# Altium schematic symbol library CAN_Optical_SchLib.SchLib: 21 symbols
Pins are listed as number, name and electrical type; pins without a type are passive.

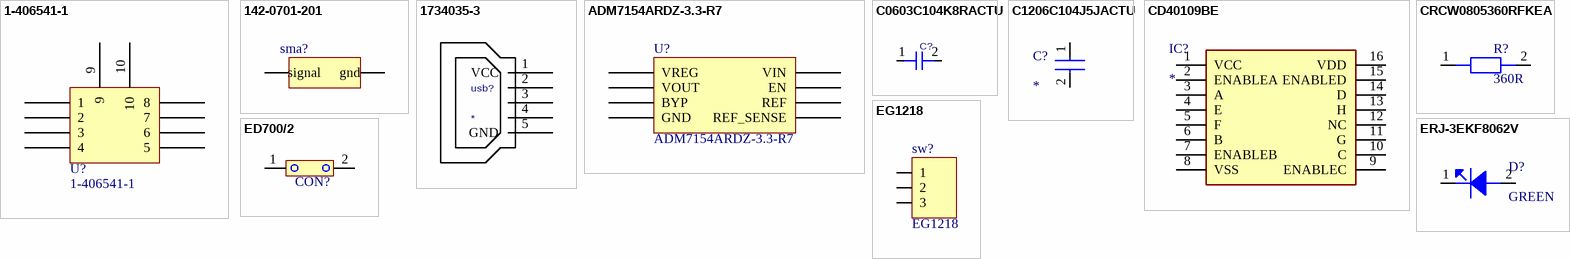
[diagram p0: symbols 1-406541-1 to ERJ-3EKF8062V]

## 1-406541-1
designator U?
Digi-Key Part Number: A97716-ND
footprint 1-406541-1 (Jack Modular Connector 8p8c (RJ45, Ethernet) 90° Angle (Right) Shielded, EMI Finger Cat5)
pins: 1, 2, 3, 4, 5, 6, 7, 8, 9, 10

## 142-0701-201
designator sma?  (value not drawn)
Digi-Key Part Number: J500-ND
footprint 142-0701-201 (CONN SMA JACK STR 50 OHM PCB)
pins: 1 signal, 2 gnd

## 1734035-3
designator usb?
CONN MINI B USB R/A SMD; Manufacturer: TE Connectivity; Manufacturer Part Number: 1734035-3; Plating: Nickel; Connector Type: Receptacle; Number of Ports: 1; Number of Positions: 5; Plating Thickness: 0.76um; Circuit Application: Power; Connector System: Cable-to-Board; Contact Current Rating: 1A; Pitch: 0.8mm; PCB Thickness: 1.57mm; Supplier 1: Digi-Key; Stock 1: 11601; Pricing 1: 1=1.37, 10=1.239, 25=1.1636, 50=1.113, 100=1.0624, 250=0.96124 (USD); Mount: Surface Mount,Horizontal; Contact Plating: Gold; Housing Color: Black; Contact Material: Bronze; Number of Terminals: 5; Housing Material: Thermoplastic; Color: Black; Min Operating Temperature: -40°C; Max Operating Temperature: 85°C; Termination: SMD/SMT; Orientation: Right Angle; Packaging: Tape and Reel; Package Quantity: 700; Gender: Receptacle; Number of Contacts: 5; Length: 8.45mm; Width: 7.7mm; Radiation Hardening: No; ELV: Compliant; Flammability Rating: UL94 V-0; Lead Free: Lead Free; ComponentLink1URL: http://www.te.com/commerce/DocumentDelivery/DDEController?Action=showdoc&DocId=Customer+Drawing%7F1734035%7FA%7Fpdf%7FEnglish%7FENG_CD_1734035_A.pdf&src-supplier=Avnet; ComponentLink1Description: http://www.te.com/commerce/DocumentDelivery/DDEController?Action=showdoc&DocId=Customer+Drawing%7F1734035%7FA%7Fpdf%7FEnglish%7FENG_CD_1734035_A.pdf&src-supplier=Avnet; ComponentLink2URL: http://www.te.com/commerce/DocumentDelivery/DDEController?Action=showdoc&DocId=Customer+Drawing%7F1734035%7FA%7Fpdf%7FEnglish%7FENG_CD_1734035_A.pdf&src-supplier=Avnet+Europe; ComponentLink2Description: http://www.te.com/commerce/DocumentDelivery/DDEController?Action=showdoc&DocId=Customer+Drawing%7F1734035%7FA%7Fpdf%7FEnglish%7FENG_CD_1734035_A.pdf&src-supplier=Avnet+Europe; ComponentLink3URL: http://www.mouser.com/ds/2/418/NG_CD_1734035_F-617298.pdf?src-supplier=Mouser; ComponentLink3Description: http://www.mouser.com/ds/2/418/NG_CD_1734035_F-617298.pdf?src-supplier=Mouser; ComponentLink4URL: http://www.te.com/commerce/DocumentDelivery/DDEController?Action=srchrtrv&DocNm=1734035&DocType=Customer+Drawing&DocLang=English&src-supplier=Digi-Key; ComponentLink4Description: http://www.te.com/commerce/DocumentDelivery/DDEController?Action=srchrtrv&DocNm=1734035&DocType=Customer+Drawing&DocLang=English&src-supplier=Digi-Key; Category: USB Connectors
footprint USB-1734035
pins: 1 VCC, 2, 3, 4, 5 GND

## ADM7154ARDZ-3.3-R7
designator U?
Linear Voltage Regulator IC Positive Fixed 1 Output 3.3V 600mA 8-SOIC-EP; Digi-Key Part Number: ADM7154ARDZ-3.3-R7CT-ND
footprint ADM7154ARDZ-3.3-R7 (Linear Voltage Regulator IC Positive Fixed 1 Output 3.3V 600mA 8-SOIC-EP)
pins: 1 VREG, 2 VOUT, 3 BYP, 4 GND, 5 REF_SENSE, 6 REF, 7 EN, 8 VIN

## C0603C104K8RACTU
designator C?  (value not drawn)
KEMET - C0603C104K8RACTU - SMD Multilayer Ceramic Capacitor, 0.1 µF, 10 V, 0603 [1608 Metric], ± 10%, X7R, C Series KEMET; Capacitance: 100nF; Voltage Rating (DC): 10V; Dissipation Factor: 5%; Supplier 1: Digi-Key; Manufacturer: KEMET; Manufacturer Part Number: C0603C104K8RACTU; Stock 1: 311118; Pricing 1: 1=0.14, 10=0.098, 100=0.0462, 500=0.0324, 1000=0.02683 (USD); Mount: Surface Mount,PCB; Case/Package: 0603; Number of Pins: 2; Dielectric Material: Ceramic; Case Code (Imperial): 0603; Case Code (Metric): 1608; Contact Plating: Tin,Matte; Min Operating Temperature: -55°C; Max Operating Temperature: 125°C; Tolerance: 10%; Dielectric: X7R; Packaging: Tape and Reel; Package Quantity: 1; Termination: SMD/SMT; Voltage Rating: 10V; Voltage: 10V; Length: 1.6mm; Height: 0.8mm; Depth: 0.8mm; Width: 0.8mm; Lead Pitch: 0.7mm; Thickness: 0.034inch; Radiation Hardening: No; REACH SVHC: No SVHC; ComponentLink1URL: http://www.farnell.com/datasheets/2740421.pdf?src-supplier=Farnell; ComponentLink1Description: http://www.farnell.com/datasheets/2740421.pdf?src-supplier=Farnell; ComponentLink2URL: http://www.kemet.com/kemet/web/homepage/kechome.nsf/vapubfiles/KEM_C1002_X7R_SMD.pdf/$file/KEM_C1002_X7R_SMD.pdf?src-supplier=Element14; ComponentLink2Description: http://www.kemet.com/kemet/web/homepage/kechome.nsf/vapubfiles/KEM_C1002_X7R_SMD.pdf/$file/KEM_C1002_X7R_SMD.pdf?src-supplier=Element14; ComponentLink3URL: https://www.verical.com/server-webapp/html/getDatasheet?partID=91529&src-supplier=Verical; ComponentLink3Description: https://www.verical.com/server-webapp/html/getDatasheet?partID=91529&src-supplier=Verical; ComponentLink4URL: http://www.mouser.com/ds/2/212/KEM_C1002_X7R_SMD-1102033.pdf?src-supplier=Mouser; ComponentLink4Description: http://www.mouser.com/ds/2/212/KEM_C1002_X7R_SMD-1102033.pdf?src-supplier=Mouser; ComponentLink5URL: http://www.alliedelec.com/m/d/9bfe7773041ffe9d406e68bc7b377fdd.pdf?src-supplier=Allied+Electronics; ComponentLink5Description: http://www.alliedelec.com/m/d/9bfe7773041ffe9d406e68bc7b377fdd.pdf?src-supplier=Allied+Electronics; ComponentLink6URL: http://www.farnell.com/datasheets/2740421.pdf?src-supplier=Element14; ComponentLink6Description: http://www.farnell.com/datasheets/2740421.pdf?src-supplier=Element14; Category: Multilayer Ceramic Capacitors MLCC
footprint C0603
pins: 1, 2

## C1206C104J5JACTU
designator C?
Capacitor; Manufacturer_Name: Kemet; Manufacturer_Part_Number: C1206C104J5JACTU; Datasheet Link: https://api.kemet.com/component-edge/download/datasheet/C1206C104J5JACTU.pdf; Height: 1.35mm
footprint CAPC3216X135N
pins: 1, 2

## CD40109BE
designator IC?
Integrated Circuit; Manufacturer_Name: Texas Instruments; Manufacturer_Part_Number: CD40109BE; Datasheet Link: http://www.ti.com/lit/ds/symlink/cd40109b.pdf; Height: 5.08mm; Mouser2 Part Number: 595-CD40109BE; Mouser2 Price/Stock: https://www.mouser.com/Search/Refine.aspx?Keyword=595-CD40109BE
footprint DIP794W53P254L1930H508Q16N
pins: 1 VCC (power), 2 ENABLEA, 3 A, 4 E, 5 F, 6 B, 7 ENABLEB, 8 VSS (power), 9 ENABLEC, 10 C, 11 G, 12 NC, 13 H, 14 D, 15 ENABLED, 16 VDD (power)

## CRCW0805360RFKEA
designator R?, comment 360R
Res Thick Film 0805 360 Ohm 1% 0.125W(1/8W) ±100ppm/C Molded SMD Automotive Paper T/R; Manufacturer 1: Vishay; Manufacturer Part Number 1: CRCW0805360RFKEA; Temperature Coefficient: 100ppm/°C; Max Power Dissipation: 125mW; Voltage Rating (DC): 150V; Supplier 1: Digi-Key; Supplier Part Number 1: 541-360CCT-ND; Stock 1: 2468; Pricing 1: 1=0.10000, 10=0.06200, 100=0.02540, 1000=0.01142, 2500=0.00991 (USD); RoHS: Yes; Case/Package: 0805; Number of Pins: 2; Weight: 0.000194oz; Contact Plating: Tin; Case Code (Metric): 2012; Case Code (Imperial): 0805; Number of Terminals: 2; Min Operating Temperature: -55°C; Max Operating Temperature: 155°C; Number of Terminations: 2; Features: Automotive AEC-Q200; Resistance: 360R; Tolerance: 1%; Packaging: Tape and Reel; Composition: Thick Film; Package Quantity: 10; Termination: SMD/SMT; Military Standard: Not; Power Rating: 125mW; Voltage Rating: 150V; Length: 2mm; Height: 0.45mm; Width: 0.049inch; Depth: 1.25mm; Radiation Hardening: No; Lead Free: Lead Free; REACH SVHC: Unknown; ComponentLink1URL: https://datasheet.ciiva.com/2467/dcrcwe3-2467773.pdf?src-supplier=Digi-Key; ComponentLink1Description: https://datasheet.ciiva.com/2467/dcrcwe3-2467773.pdf?src-supplier=Digi-Key; Category: Resistors
footprint R0805 - duplicate - duplicate
pins: 1, 2

## ED700/2
designator CON?  (value not drawn)
Digi-Key Part Number: ED1631-ND
footprint ED700/2 (TERMINAL BLOCK 5MM 2POS PCB)
pins: 1, 2

## EG1218
designator sw?
Digi-Key Part Number: EG1903-ND
footprint EG1218 (SWITCH SLIDE SPDT 200MA 30V)
pins: 1, 2, 3

## ERJ-3EKF8062V
designator D?, comment GREEN
PANASONIC - ERJ3EKF8062V - Surface Mount Thick Film Resistor, AEC-Q200 ERJ Series, 80.6 kohm, 100 mW, -  1%, 75 V RoHS Compliant: Yes; Manufacturer Part Number 1: ERJ-3EKF8062V; Voltage Rating: 75V; Temperature Coefficient: 100ppm/°C; Max Power Dissipation: 100mW; Resistance: 80.6kR; Supplier 1: Digi-Key; Supplier Part Number 1: P80.6KHCT-ND; Manufacturer 1: Panasonic; Stock 1: 56636; Pricing 1: 1=0.10000, 10=0.05700, 100=0.02340, 1000=0.01049, 2500=0.00911 (USD); RoHS: Yes; Mount: Surface Mount; Case/Package: 0603; Contact Plating: Tin; Case Code (Imperial): 0603; Case Code (Metric): 1608; Min Operating Temperature: -55°C; Max Operating Temperature: 155°C; Packaging: Tape and Reel; Package Quantity: 1; Termination: SMD/SMT; Tolerance: 1%; Composition: Thick Film; Number of Terminations: 2; Power Rating: 100mW; Features: Automotive AEC-Q200; Military Standard: Not; Length: 1.6mm; Height: 0.45mm; Depth: 0.8mm; Width: 0.8mm; Radiation Hardening: No; REACH SVHC: No SVHC; ComponentLink1URL: https://datasheet.ciiva.com/34303/1988428-34303606.pdf?src-supplier=Jameco; ComponentLink1Description: https://datasheet.ciiva.com/34303/1988428-34303606.pdf?src-supplier=Jameco; ComponentLink2URL: https://datasheet.ciiva.com/26820/getdatasheetpartid-28772-26820919.pdf?src-supplier=Verical; ComponentLink2Description: https://datasheet.ciiva.com/26820/getdatasheetpartid-28772-26820919.pdf?src-supplier=Verical; ComponentLink3URL: https://datasheet.ciiva.com/28540/1678782-28540761.pdf?src-supplier=Element14; ComponentLink3Description: https://datasheet.ciiva.com/28540/1678782-28540761.pdf?src-supplier=Element14; ComponentLink4URL: https://datasheet.ciiva.com/30240/aoa0000ce2-30240122.pdf?src-supplier=Onlinecomponents.com; ComponentLink4Description: https://datasheet.ciiva.com/30240/aoa0000ce2-30240122.pdf?src-supplier=Onlinecomponents.com; ComponentLink5URL: https://datasheet.ciiva.com/9117/aoa0000ce2-9117181.pdf?src-supplier=Avnet; ComponentLink5Description: https://datasheet.ciiva.com/9117/aoa0000ce2-9117181.pdf?src-supplier=Avnet; ComponentLink6URL: https://datasheet.ciiva.com/16767/70260748-16767567.pdf?src-supplier=Allied+Electronics; ComponentLink6Description: https://datasheet.ciiva.com/16767/70260748-16767567.pdf?src-supplier=Allied+Electronics; ComponentLink7URL: https://datasheet.ciiva.com/16771/70260748-16771423.pdf?src-supplier=Allied+Electronics; ComponentLink7Description: https://datasheet.ciiva.com/16771/70260748-16771423.pdf?src-supplier=Allied+Electronics; ComponentLink8URL: https://datasheet.ciiva.com/24069/aoa0000ce2-24069717.pdf?src-supplier=Mouser; ComponentLink8Description: https://datasheet.ciiva.com/24069/aoa0000ce2-24069717.pdf?src-supplier=Mouser; ComponentLink9URL: https://datasheet.ciiva.com/43460/426256-43460613.pdf?src-supplier=Farnell; ComponentLink9Description: https://datasheet.ciiva.com/43460/426256-43460613.pdf?src-supplier=Farnell; ComponentLink10URL: https://datasheet.ciiva.com/46390/426256-46390277.pdf?src-supplier=Element14; ComponentLink10Description: https://datasheet.ciiva.com/46390/426256-46390277.pdf?src-supplier=Element14; ComponentLink11URL: https://datasheet.ciiva.com/46378/426256-46378107.pdf?src-supplier=Element14; ComponentLink11Description: https://datasheet.ciiva.com/46378/426256-46378107.pdf?src-supplier=Element14; ComponentLink12URL: https://datasheet.ciiva.com/17208/aoa0000ce2-17208604.pdf?src-supplier=Avnet+Europe; ComponentLink12Description: https://datasheet.ciiva.com/17208/aoa0000ce2-17208604.pdf?src-supplier=Avnet+Europe; ComponentLink13URL: https://datasheet.ciiva.com/6159/426256-6159621.pdf?src-supplier=Farnell; ComponentLink13Description: https://datasheet.ciiva.com/6159/426256-6159621.pdf?src-supplier=Farnell; Category: Optoelectronics
footprint LED0603G
pins: 1, 2

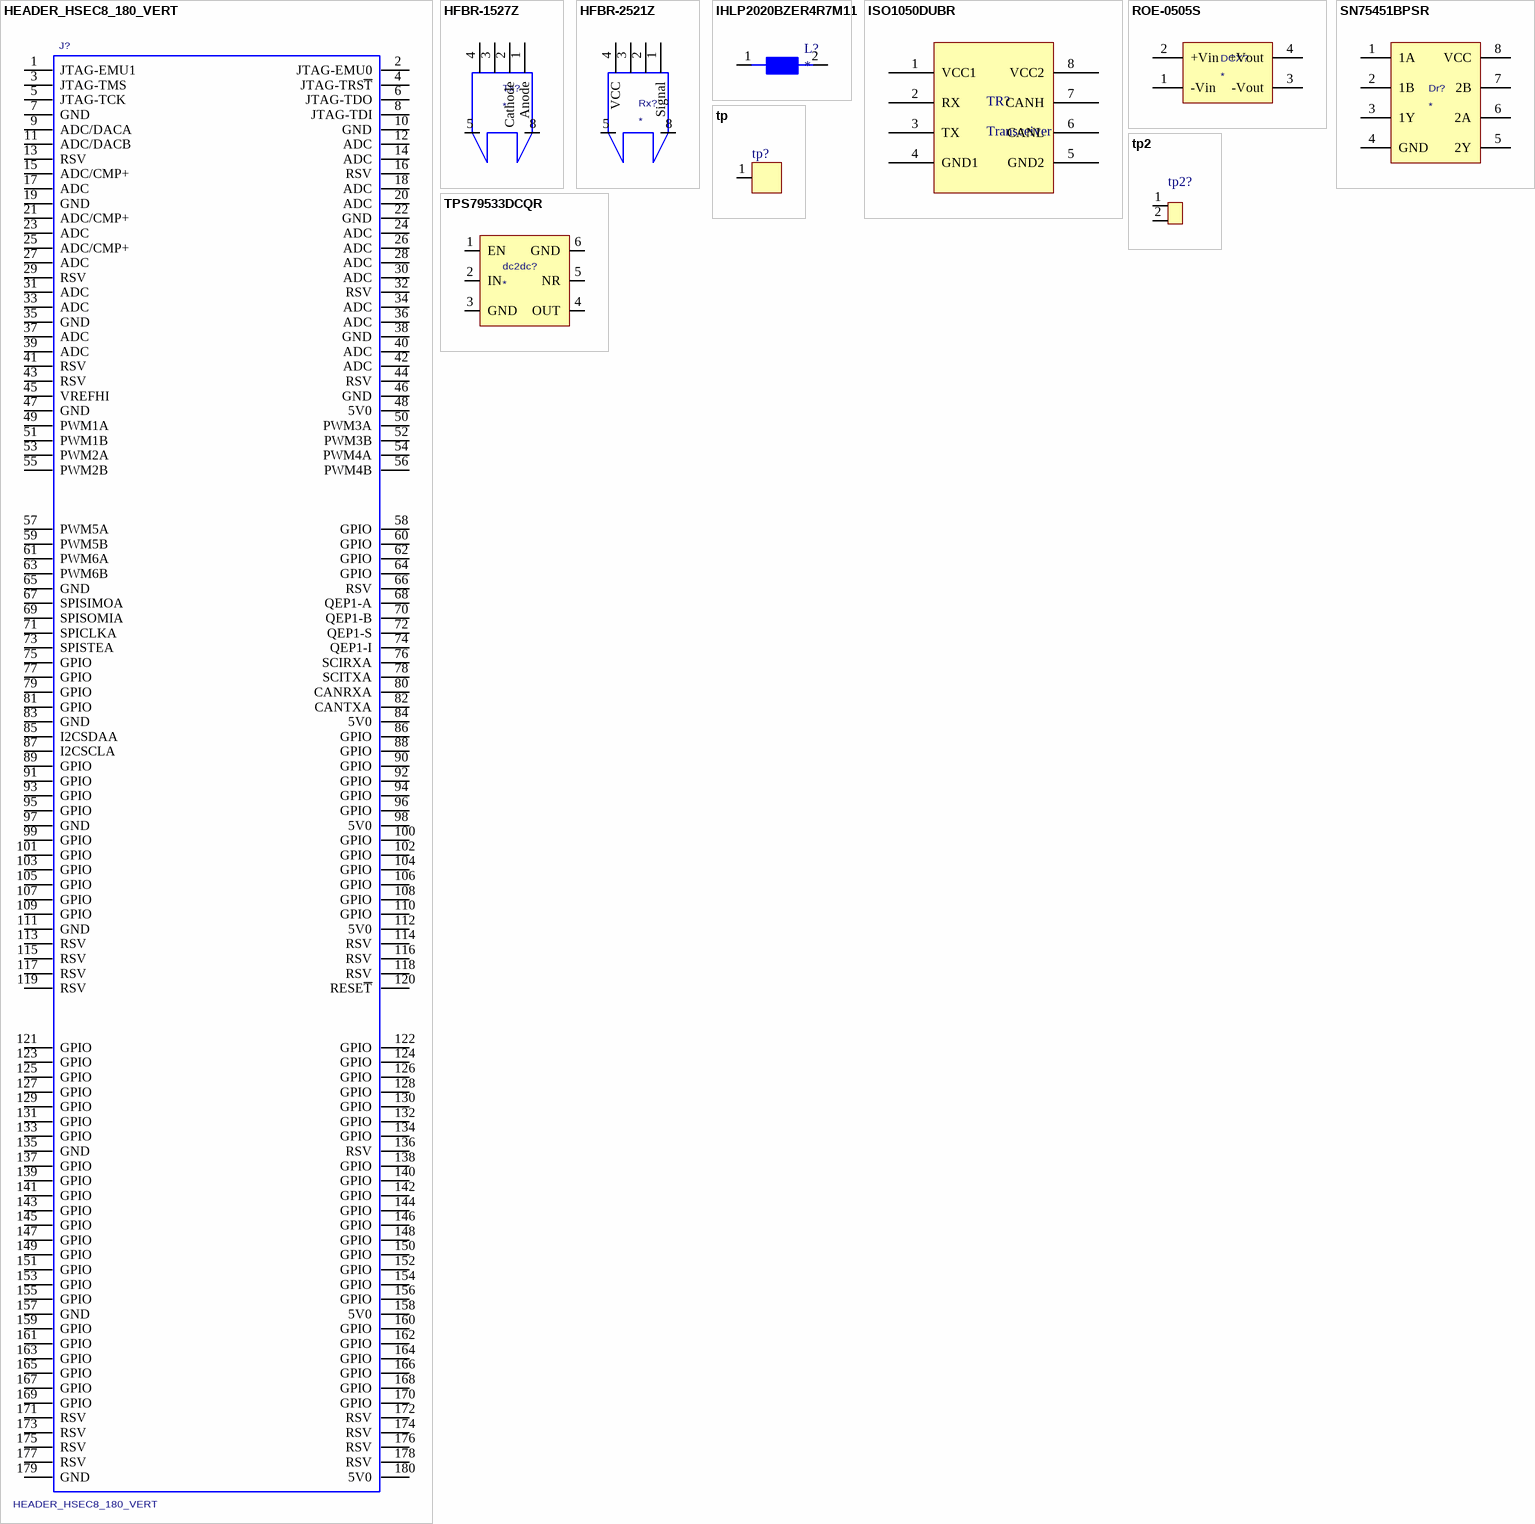
[diagram p1: symbols HEADER_HSEC8_180_VERT to TPS79533DCQR]

## HEADER_HSEC8_180_VERT
designator J?
180 pin (120 + 60) HSEC8 socket, samtec; Digi-Key Part Number: SAM9083-ND & SAM9080-ND
footprint HEADER_HSEC8_180_DV
pins: 1 JTAG-EMU1, 2 JTAG-EMU0, 3 JTAG-TMS, 4 JTAG-TRS~{T}, 5 JTAG-TCK, 6 JTAG-TDO, 7 GND, 8 JTAG-TDI, 9 ADC/DACA, 10 GND, 11 ADC/DACB, 12 ADC, 13 RSV, 14 ADC, 15 ADC/CMP+, 16 RSV, 17 ADC, 18 ADC, 19 GND, 20 ADC, 21 ADC/CMP+, 22 GND, 23 ADC, 24 ADC, 25 ADC/CMP+, 26 ADC, 27 ADC, 28 ADC, 29 RSV, 30 ADC, 31 ADC, 32 RSV, 33 ADC, 34 ADC, 35 GND, 36 ADC, 37 ADC, 38 GND, 39 ADC, 40 ADC, 41 RSV, 42 ADC, 43 RSV, 44 RSV, 45 VREFHI, 46 GND, 47 GND, 48 5V0, 49 PWM1A, 50 PWM3A, 51 PWM1B, 52 PWM3B, 53 PWM2A, 54 PWM4A, 55 PWM2B, 56 PWM4B, 57 PWM5A, 58 GPIO, 59 PWM5B, 60 GPIO, 61 PWM6A, 62 GPIO, 63 PWM6B, 64 GPIO, 65 GND, 66 RSV, 67 SPISIMOA, 68 QEP1-A, 69 SPISOMIA, 70 QEP1-B, 71 SPICLKA, 72 QEP1-S, 73 SPISTEA, 74 QEP1-I, 75 GPIO, 76 SCIRXA, 77 GPIO, 78 SCITXA, 79 GPIO, 80 CANRXA, 81 GPIO, 82 CANTXA, 83 GND, 84 5V0, 85 I2CSDAA, 86 GPIO, 87 I2CSCLA, 88 GPIO, 89 GPIO, 90 GPIO, 91 GPIO, 92 GPIO, 93 GPIO, 94 GPIO, 95 GPIO, 96 GPIO, 97 GND, 98 5V0, 99 GPIO, 100 GPIO, 101 GPIO, 102 GPIO, 103 GPIO, 104 GPIO, 105 GPIO, 106 GPIO, 107 GPIO, 108 GPIO, 109 GPIO, 110 GPIO, 111 GND, 112 5V0, 113 RSV, 114 RSV, 115 RSV, 116 RSV, 117 RSV, 118 RSV, 119 RSV, 120 RESE~{T}, 121 GPIO, 122 GPIO, 123 GPIO, 124 GPIO, 125 GPIO, 126 GPIO, 127 GPIO, 128 GPIO, 129 GPIO, 130 GPIO, 131 GPIO, 132 GPIO, 133 GPIO, 134 GPIO, 135 GND, 136 RSV, 137 GPIO, 138 GPIO, 139 GPIO, 140 GPIO, 141 GPIO, 142 GPIO, 143 GPIO, 144 GPIO, 145 GPIO, 146 GPIO, 147 GPIO, 148 GPIO, 149 GPIO, 150 GPIO, 151 GPIO, 152 GPIO, 153 GPIO, 154 GPIO, 155 GPIO, 156 GPIO, 157 GND, 158 5V0, 159 GPIO, 160 GPIO, 161 GPIO, 162 GPIO, 163 GPIO, 164 GPIO, 165 GPIO, 166 GPIO, 167 GPIO, 168 GPIO, 169 GPIO, 170 GPIO, 171 RSV, 172 RSV, 173 RSV, 174 RSV, 175 RSV, 176 RSV, 177 RSV, 178 RSV, 179 GND, 180 5V0

## HFBR-1527Z
designator Tx?
IC & Component Sockets 8 PIN SKT 200u Sn; Manufacturer: Broadcom Avago; Manufacturer Part Number: 110-41-308-41-001000; Operating Supply Voltage: 5V; Forward Voltage: 2.1V; Wavelength: 650nm; Data Rate: 1Mbps; Capacitance: 60pF; Forward Current: 80mA; Max Reverse Voltage (DC): 3V; Rise Time: 12ns; Fall Time: 9ns; Supplier 1: Digi-Key; Stock 1: 1407; Pricing 1: 1=12.01, 10=11.499, 100=7.6659, 500=6.89932, 1000=6.51602, 2500=6.38825, 5000=6.26049, 10000=6.23493 (USD); Mount: Snap in,Through Hole; Number of Pins: 6; Min Operating Temperature: 0°C; Max Operating Temperature: 70°C; Package Quantity: 200; Reverse Voltage (DC): 5V; Packaging: Rail/Tube; Length: 19.6mm; Height: 7.71mm; Width: 10.4mm; Radiation Hardening: No; REACH SVHC: No SVHC; Lead Free: Lead Free; ComponentLink1URL: http://www.farnell.com/datasheets/67624.pdf?src-supplier=Element14; ComponentLink1Description: http://www.farnell.com/datasheets/67624.pdf?src-supplier=Element14; ComponentLink2URL: http://www1.futureelectronics.com/doc/AVAGO%20TECHNOLOGIES/HFBR-1527Z.pdf?src-supplier=Future+Electronics; ComponentLink2Description: http://www1.futureelectronics.com/doc/AVAGO%20TECHNOLOGIES/HFBR-1527Z.pdf?src-supplier=Future+Electronics; ComponentLink3URL: https://www.distrelec.biz/Web/Downloads/_t/ds/HFBR-0500Z_eng_tds.pdf?mime=application%2Fpdf&src-supplier=Distrelec; ComponentLink3Description: https://www.distrelec.biz/Web/Downloads/_t/ds/HFBR-0500Z_eng_tds.pdf?mime=application%2Fpdf&src-supplier=Distrelec; ComponentLink4URL: https://www.verical.com/server-webapp/html/getDatasheet?partID=95209&src-supplier=Verical; ComponentLink4Description: https://www.verical.com/server-webapp/html/getDatasheet?partID=95209&src-supplier=Verical; ComponentLink5URL: http://uk.rs-online.com/webdocs/0a20/0900766b80a20828.pdf?src-supplier=RSComponents; ComponentLink5Description: http://uk.rs-online.com/webdocs/0a20/0900766b80a20828.pdf?src-supplier=RSComponents; ComponentLink6URL: http://datasheet.iiic.cc/avago_technologies/HFBR-1527Z.pdf?src-supplier=IIIC; ComponentLink6Description: http://datasheet.iiic.cc/avago_technologies/HFBR-1527Z.pdf?src-supplier=IIIC; Category: Fiber Optic Transmitters
footprint HFBRX5XXZ
pins: 1 Anode, 2 Cathode, 3, 4, 5, 8 6

## HFBR-2521Z
designator Rx?
IC & Component Sockets 8 PIN SKT 200u Sn; Manufacturer: Broadcom; Manufacturer Part Number: 110-41-308-41-001000; Wavelength: 660nm; Operating Supply Current: 10mA; Supplier 1: Digi-Key; Stock 1: 3382; Pricing 1: 1=11.78, 10=10.666, 100=7.1104, 500=6.1105, 1000=5.7772, 2500=5.64388, 5000=5.555, 10000=5.4439 (USD); REACH SVHC: No SVHC
footprint HFBRX5XXZ
pins: 1 Signal, 2, 3, 4 VCC, 5, 8 6

## IHLP2020BZER4R7M11
designator L?
FIXED IND 4.7UH 3.2A 81.3 MOHM; Manufacturer: Vishay Dale; Manufacturer Part Number: IHLP2020BZER4R7M11; Core Material: Metal,Composite,Ferrite; Inductance Tolerance: 20%; Self Resonant Frequency: 27MHz; Shielding: Shielded; Saturation Current: 3A; DC Resistance (DCR): 81.3mR; Test Frequency: 100kHz; Supplier 1: Digi-Key; Stock 1: 25026; Pricing 1: 1=2.39, 10=2.208, 100=1.5456, 500=1.2512, 1000=1.1408 (USD); Mount: Surface Mount; Case/Package: 2020; Number of Pins: 2020; Min Operating Temperature: -55°C; Max Operating Temperature: 125°C; Tolerance: 20%; Packaging: Tape and Reel; Inductance: 4.7uH; Package Quantity: 2000; Current Rating: 3.2A; Max DC Current: 3A; Termination: SMD/SMT; RMS Current (Irms): 3.2A; Military Standard: Not; Length: 5.49mm; Height: 2mm; Width: 0.204inch; Height - Seated (Max): 0.079inch; Depth: 5.43mm; Radiation Hardening: No; REACH SVHC: Unknown; Lead Free: Lead Free; ComponentLink1URL: http://www.vishay.com/docs/34261/lp20bz11.pdf?src-supplier=Future+Electronics; ComponentLink1Description: http://www.vishay.com/docs/34261/lp20bz11.pdf?src-supplier=Future+Electronics; ComponentLink2URL: http://uk.rs-online.com/webdocs/102c/0900766b8102c92e.pdf?src-supplier=RSComponents; ComponentLink2Description: http://uk.rs-online.com/webdocs/102c/0900766b8102c92e.pdf?src-supplier=RSComponents; ComponentLink3URL: http://www.vishay.com/docs/34261/ihlp2020bz11.pdf?src-supplier=Digi-Key; ComponentLink3Description: http://www.vishay.com/docs/34261/ihlp2020bz11.pdf?src-supplier=Digi-Key; Category: Inductors, Coils, Chokes
footprint L_IHLP2020BZER4R7M11
pins: 1, 2

## ISO1050DUBR
designator TR?, comment Transceiver
CAN 1Mbps 3.3V/5V 8-Pin SOP; Manufacturer: Texas Instruments; Manufacturer Part Number: ISO1050DUBR; Number of Transmit Buffers: 1; Min Supply Voltage: 3V; Max Supply Voltage: 5.5V; Propagation Delay: 74ns; Output Current: 70mA; Output Voltage: 5V; Polarity: Unidirectional; Operating Supply Current: 52mA; Max Power Dissipation: 200mW; Working Voltage: 1.2V; Supplier 1: Digi-Key; Stock 1: 11666; Pricing 1: 1=4.9, 10=4.398, 25=4.158, 100=3.4188 (USD); Case/Package: SOP; Number of Pins: 8; Weight: 0.030018oz; Contact Plating: Gold; Min Operating Temperature: -55°C; Max Operating Temperature: 105°C; Package Quantity: 1; Packaging: Tape and Reel; Number of Receive Buffers: 1; Data Rate: 1Mbps; Number of Channels: 1; Number of Transceivers: 1; Termination: SMD/SMT; Number of Drivers: 1; Operating Supply Voltage: 5V; Radiation Hardening: No; REACH SVHC: No SVHC; Lead Free: Lead Free; ComponentLink1URL: http://www.ti.com/lit/ds/symlink/iso1050.pdf?src-supplier=Digi-Key; ComponentLink1Description: http://www.ti.com/lit/ds/symlink/iso1050.pdf?src-supplier=Digi-Key; ComponentLink2URL: http://www.farnell.com/datasheets/1972904.pdf?src-supplier=Element14; ComponentLink2Description: http://www.farnell.com/datasheets/1972904.pdf?src-supplier=Element14; ComponentLink3URL: https://www.verical.com/server-webapp/html/getDatasheet?partID=330373&src-supplier=Verical; ComponentLink3Description: https://www.verical.com/server-webapp/html/getDatasheet?partID=330373&src-supplier=Verical; ComponentLink4URL: http://sg.element14.com/webapp/wcs/stores/servlet/OpenCAD?catalogId=15001&langId=65&id=800000158048&storeId=10191&returnURL=http%3A%2F%2Fsg.element14.com%2Ftexas-instruments%2Fiso1050dubr%2Fic-can-transceiver-isolated-5v%2Fdp%2F1755712&src-supplier=Element14; ComponentLink4Description: http://sg.element14.com/webapp/wcs/stores/servlet/OpenCAD?catalogId=15001&langId=65&id=800000158048&storeId=10191&returnURL=http%3A%2F%2Fsg.element14.com%2Ftexas-instruments%2Fiso1050dubr%2Fic-can-transceiver-isolated-5v%2Fdp%2F1755712&src-supplier=Element14; ComponentLink5URL: http://www.produktinfo.conrad.com/datenblaetter/1100000-1199999/001187118-da-01-en-IC_TXRX_CAN_5V_ISO_ISO1050DUBR_SOP_8_TID.pdf?src-supplier=Conrad; ComponentLink5Description: http://www.produktinfo.conrad.com/datenblaetter/1100000-1199999/001187118-da-01-en-IC_TXRX_CAN_5V_ISO_ISO1050DUBR_SOP_8_TID.pdf?src-supplier=Conrad; ComponentLink6URL: http://datasheet.iiic.cc/texas_instruments/ISO1050DUBR.pdf?src-supplier=IIIC; ComponentLink6Description: http://datasheet.iiic.cc/texas_instruments/ISO1050DUBR.pdf?src-supplier=IIIC; Category: Interface - Drivers, Receivers, Transceivers
footprint RXTX_ISO1050
pins: 1 VCC1, 2 RX, 3 TX, 4 GND1, 5 GND2, 6 CANL, 7 CANH, 8 VCC2

## ROE-0505S
designator DCX?
Module DC-DC 5VIN 1-OUT 5V 0.2A 1W 4-Pin SIP Tube; Manufacturer: Recom; Manufacturer Part Number: ROE-0505S; Min Input Voltage: 4.5V; Max Input Voltage: 5.5V; Number of Outputs: 1; Max Output Current: 200mA; Efficiency: 75%; Isolation Voltage: 1kV; Isolation: Isolated; Supplier 1: Digi-Key; Stock 1: 4706; Pricing 1: 1=2.64, 5=2.604, 10=2.567, 25=2.4916, 50=2.416, 100=2.3405, 250=2.265, 500=2.114 (USD); Mount: Through Hole; Case/Package: SIP; Number of Pins: 4; Weight: 1.4g; Min Operating Temperature: -40°C; Max Operating Temperature: 85°C; Nominal Output Voltage: 5V; Output Current: 200mA; Output Voltage: 5V; Power Rating: 1W; Nominal Input Voltage: 5V; Output Power: 1W; Package Quantity: 42; Packaging: Rail/Tube; Min Input Voltage (DC): 4.5V; Voltage - Output 1: 5V; Current - Output 1: 200mA; Max Input Voltage (DC): 5.5V; Max Output Power: 1W; Max Power Dissipation: 1W; Max Output Voltage: 5V; Length: 11.5mm; Height: 10mm; Width: 6mm; Depth: 6mm; REACH SVHC: No SVHC; Lead Free: Lead Free; ComponentLink1URL: http://www.farnell.com/datasheets/2787770.pdf?src-supplier=Element14; ComponentLink1Description: http://www.farnell.com/datasheets/2787770.pdf?src-supplier=Element14; ComponentLink2URL: http://www.mouser.com/ds/2/468/ROE-766139.pdf?src-supplier=Mouser; ComponentLink2Description: http://www.mouser.com/ds/2/468/ROE-766139.pdf?src-supplier=Mouser; ComponentLink3URL: https://www.recom-power.com/pdf/Econoline/ROE.pdf?src-supplier=Digi-Key; ComponentLink3Description: https://www.recom-power.com/pdf/Econoline/ROE.pdf?src-supplier=Digi-Key; ComponentLink4URL: http://www.recom-international.com/pdf/Econoline/ROE.pdf?src-supplier=Future+Electronics; ComponentLink4Description: http://www.recom-international.com/pdf/Econoline/ROE.pdf?src-supplier=Future+Electronics; ComponentLink5URL: http://uk.rs-online.com/webdocs/1373/0900766b81373201.pdf?src-supplier=RSComponents; ComponentLink5Description: http://uk.rs-online.com/webdocs/1373/0900766b81373201.pdf?src-supplier=RSComponents; ComponentLink6URL: http://www.produktinfo.conrad.com/datenblaetter/675000-699999/676228-da-01-en-DC_DC_WANDLER_ROE_0505S.pdf?src-supplier=Conrad; ComponentLink6Description: http://www.produktinfo.conrad.com/datenblaetter/675000-699999/676228-da-01-en-DC_DC_WANDLER_ROE_0505S.pdf?src-supplier=Conrad; Category: Power Supply
footprint RECOM_DCDC
pins: 1 -Vin, 2 +Vin, 3 -Vout, 4 +Vout

## SN75451BPSR
designator Dr?
IC DUAL PERIPHERAL DRVR 8-SOP; Manufacturer: Texas Instruments; Manufacturer Part Number: SN75451BPSR; Number of Drivers: 2; Propagation Delay: 25ns; Nominal Supply Current: 65mA; Turn-On Delay Time: 8ns; Turn-Off Delay Time: 12ns; Output Voltage: 30V; Output Current: 300mA; Operating Supply Voltage: 5.25V; Max Input Voltage: 5.5V; Supplier 1: Digi-Key; Stock 1: 0; Mount: Surface Mount; Case/Package: SOP; Number of Pins: 8; Weight: 0.004325oz; Min Operating Temperature: 0°C; Max Operating Temperature: 70°C; Packaging: Tape and Reel; Package Quantity: 2000; Number of Outputs: 2; Max Supply Current: 65mA; Radiation Hardening: No; Lead Free: Contains Lead; ComponentLink1URL: https://www.verical.com/server-webapp/html/getDatasheet?partID=528972&src-supplier=Verical; ComponentLink1Description: https://www.verical.com/server-webapp/html/getDatasheet?partID=528972&src-supplier=Verical; ComponentLink2URL: http://www.ti.com/lit/ds/symlink/sn75462.pdf?src-supplier=Digi-Key; ComponentLink2Description: http://www.ti.com/lit/ds/symlink/sn75462.pdf?src-supplier=Digi-Key; ComponentLink3URL: http://www.ti.com/lit/ds/slrs021b/slrs021b.pdf?src-supplier=Avnet; ComponentLink3Description: http://www.ti.com/lit/ds/slrs021b/slrs021b.pdf?src-supplier=Avnet; Category: Buffers & Line Drivers
footprint SN75451BPS
pins: 1 1A, 2 1B, 3 1Y, 4 GND, 5 2Y, 6 2A, 7 2B, 8 VCC

## tp
designator tp?  (value not drawn)
Digi-Key Part Number: S1012EC-10-ND
footprint tp
pins: 1

## tp2
designator tp2?  (value not drawn)
Digi-Key Part Number: S1012EC-10-ND
footprint tp2
pins: 1, 2

## TPS79533DCQR
designator dc2dc?
LDO Regulator Pos 3.3V 0.5A 6-Pin(5+Tab) SOT-223 T/R; Manufacturer: Texas Instruments; Manufacturer Part Number: TPS79533DCQR; Dropout Voltage: 105mV; Output Current: 500mA; Number of Outputs: 1; Max Input Voltage: 5.5V; Min Input Voltage: 2.7V; Input Bias Current: 265uA; Min Current Limit: 2.4A; Polarity: Positive; Output Voltage Accuracy: 2%; Quiescent Current: 260uA; Output Type: Fixed; Reference Voltage: 1.225V; Supplier 1: Digi-Key; Stock 1: 10979; Pricing 1: 1=2.92, 10=2.618, 25=2.4752, 100=2.035, 250=1.826, 500=1.76, 1000=1.463 (USD); Case/Package: SOT-223; Number of Pins: 6; Contact Plating: Gold; Min Operating Temperature: -40°C; Max Operating Temperature: 125°C; Output Voltage: 3.3V; Package Quantity: 1; Packaging: Tape and Reel; Nominal Output Voltage: 3.3V; Max Output Current: 500mA; Number of Regulators: 1; Min Output Voltage: 3.3V; Accuracy: 2%; Max Output Voltage: 3.3V; Radiation Hardening: No; REACH SVHC: No SVHC; Lead Free: Lead Free; ComponentLink1URL: http://www.farnell.com/datasheets/1846881.pdf?src-supplier=Element14; ComponentLink1Description: http://www.farnell.com/datasheets/1846881.pdf?src-supplier=Element14; Category: Linear Voltage Regulator
footprint VR_TPS79533DCQR
pins: 1 EN, 2 IN, 3 GND, 4 OUT, 5 NR, 6 GND